# EAGLE library part HX711 (library SparkFun-IC-Conversion)
AVIA Semiconductor HX711 - ADC 24-Bit Analog-to-Digital Converter for Weigh Scales Datasheet <https://cdn.sparkfun.com/datasheets/Sensors/ForceFlex/hx711_english.pdf> SparkFun Products: SparkFun Load Cell Amplifier - HX711 <https://www.sparkfun.com/products/13879>
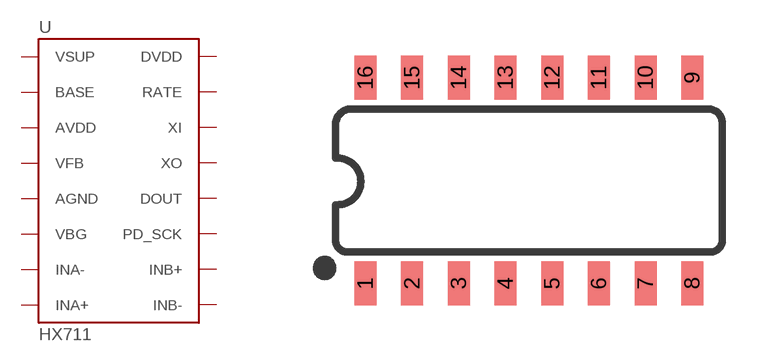
[diagram p3: symbol with the pads of SO16; footprint SO16]

Designator prefix U

## HX711 (PROD_ID: IC-12445; VALUE: HX711)  [SO16]
1  VSUP
2  BASE
3  AVDD
4  VFB
5  AGND
6  VBG
7  INA-
8  INA+
9  INB-
10  INB+
11  PD_SCK
12  DOUT
13  XO
14  XI
15  RATE
16  DVDD

## Footprint SO16 (pad centres in mm)
SOIC -16 Specifications: Pin count: 16 Area: 0.15 width Example device(s): HX711
smd 0.6 x 1.2: 1 -4.445,-2.8; 2 -3.175,-2.8; 3 -1.905,-2.8; 4 -0.635,-2.8; 5 0.635,-2.8; 6 1.905,-2.8; 7 3.175,-2.8; 8 4.445,-2.8; 9 4.445,2.8; 10 3.175,2.8; 11 1.905,2.8; 12 0.635,2.8; 13 -0.635,2.8; 14 -1.905,2.8; 15 -3.175,2.8; 16 -4.445,2.8